# Altium integrated library LM2901PWR.IntLib: 1 symbol
Pins are listed as number, name and electrical type; pins without a type are passive.

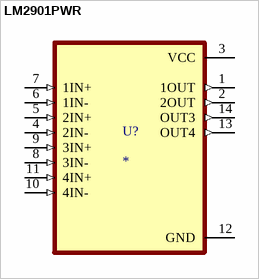
[diagram p0: symbol LM2901PWR]

## LM2901PWR
designator U?
30-V quad differential comparator; MF: Texas; MP: LM2901PWR; SnapEDA_Link: https://www.snapeda.com/parts/LM2901PWR/Texas+Instruments/view-part/?ref=snap; Package: TSSOP-14 Texas Instruments; Value: *; Check_prices: https://www.snapeda.com/parts/LM2901PWR/Texas+Instruments/view-part/?ref=eda
footprint SOP65P640X120-14N
pins: 1 1OUT (out), 2 2OUT (out), 3 VCC (power), 4 2IN- (in), 5 2IN+ (in), 6 1IN- (in), 7 1IN+ (in), 8 3IN- (in), 9 3IN+ (in), 10 4IN- (in), 11 4IN+ (in), 12 GND (power), 13 OUT4 (out), 14 OUT3 (out)